# Altium footprint library RP235xB.PcbLib: 1 footprints
Each footprint in its own frame and in the unit in brackets; x right, y up, seen from the top. Pads: shape width x height; smd on the part's side, far side on the other; paste and mask are expansions set on the pad; w line width, h text height; cw(c..) or ccw(c..) is an arc to the next point about the centre after c.
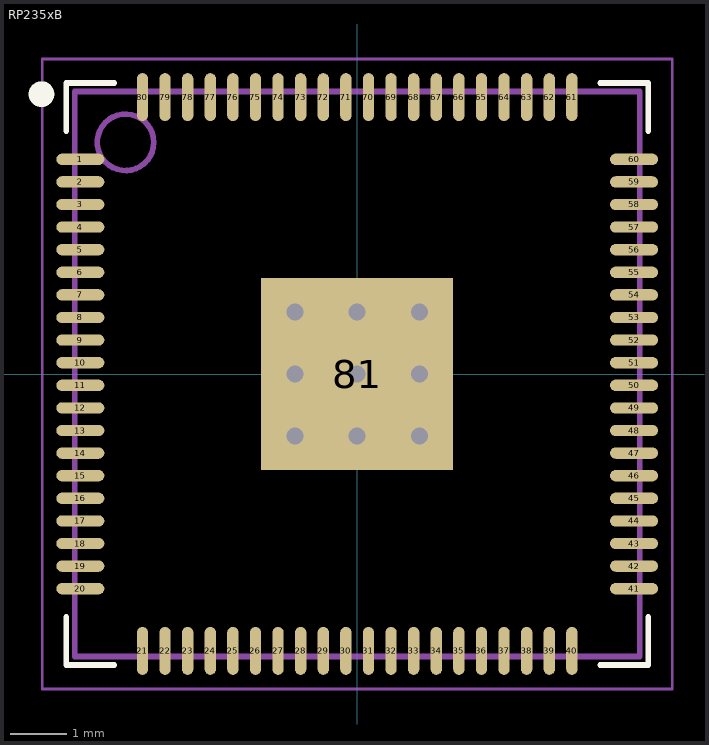
[diagram p0: the footprint, top view; thin cyan lines are the x and y axes]

## RP235xB [mm]
height 0.9
pads (81):
  oval 0.85x0.2 smd: 1(-4.9,3.8) 2(-4.9,3.4) 3(-4.9,3) 4(-4.9,2.6) 5(-4.9,2.2) 6(-4.9,1.8) 7(-4.9,1.4) 8(-4.9,1) 9(-4.9,0.6) 10(-4.9,0.2) 11(-4.9,-0.2) 12(-4.9,-0.6) 13(-4.9,-1) 14(-4.9,-1.4) 15(-4.9,-1.8) 16(-4.9,-2.2) 17(-4.9,-2.6) 18(-4.9,-3) 19(-4.9,-3.4) 20(-4.9,-3.8) 41(4.9,-3.8) 42(4.9,-3.4) 43(4.9,-3) 44(4.9,-2.6) 45(4.9,-2.2) 46(4.9,-1.8) 47(4.9,-1.4) 48(4.9,-1) 49(4.9,-0.6) 50(4.9,-0.2) 51(4.9,0.2) 52(4.9,0.6) 53(4.9,1) 54(4.9,1.4) 55(4.9,1.8) 56(4.9,2.2) 57(4.9,2.6) 58(4.9,3) 59(4.9,3.4) 60(4.9,3.8)
  oval 0.2x0.85 smd: 21(-3.8,-4.9) 22(-3.4,-4.9) 23(-3,-4.9) 24(-2.6,-4.9) 25(-2.2,-4.9) 26(-1.8,-4.9) 27(-1.4,-4.9) 28(-1,-4.9) 29(-0.6,-4.9) 30(-0.2,-4.9) 31(0.2,-4.9) 32(0.6,-4.9) 33(1,-4.9) 34(1.4,-4.9) 35(1.8,-4.9) 36(2.2,-4.9) 37(2.6,-4.9) 38(3,-4.9) 39(3.4,-4.9) 40(3.8,-4.9) 61(3.8,4.9) 62(3.4,4.9) 63(3,4.9) 64(2.6,4.9) 65(2.2,4.9) 66(1.8,4.9) 67(1.4,4.9) 68(1,4.9) 69(0.6,4.9) 70(0.2,4.9) 71(-0.2,4.9) 72(-0.6,4.9) 73(-1,4.9) 74(-1.4,4.9) 75(-1.8,4.9) 76(-2.2,4.9) 77(-2.6,4.9) 78(-3,4.9) 79(-3.4,4.9) 80(-3.8,4.9)
  rect 3.4x3.4 smd: 81(0,0)
via -1.1,1.1 diameter 0.5 hole 0.3
via 0,1.1 diameter 0.5 hole 0.3
via 1.1,1.1 diameter 0.5 hole 0.3
via -1.1,0 diameter 0.5 hole 0.3
via 0,0 diameter 0.5 hole 0.3
via 1.1,0 diameter 0.5 hole 0.3
via -1.1,-1.1 diameter 0.5 hole 0.3
via 0,-1.1 diameter 0.5 hole 0.3
via 1.1,-1.1 diameter 0.5 hole 0.3
Top Overlay:
  circle w0.254: c-5.588,4.953 r0.1
  lines w0.1: -5.15,-4.3 -5.15,-5.15 -4.3,-5.15 ; -5.15,4.3 -5.15,5.15 -4.3,5.15 ; 4.3,-5.15 5.15,-5.15 5.15,-4.3 ; 4.3,5.15 5.15,5.15 5.15,4.3
Mechanical 1:
  circle w0.1: c-4.1,4.1 r0.5
  lines w0.1: -5,-5 -5,5 5,5 5,-5 -5,-5
  text ".Designator" at -3.304,-0.293 h0.65
Mechanical 2:
  lines w0.05: -5.575,-5.575 -5.575,5.575 5.575,5.575 5.575,-5.575 -5.575,-5.575
  lines w0.1: -0.5,0 0.5,0 ; 0,-0.5 0,0.5
3D body: height 0.9, standoff 0, extent -5,-5 5,5